# Altium schematic symbol library lt3001-eval-new-sch.SchLib: 8 symbols
Pins are listed as number, name and electrical type; pins without a type are passive.

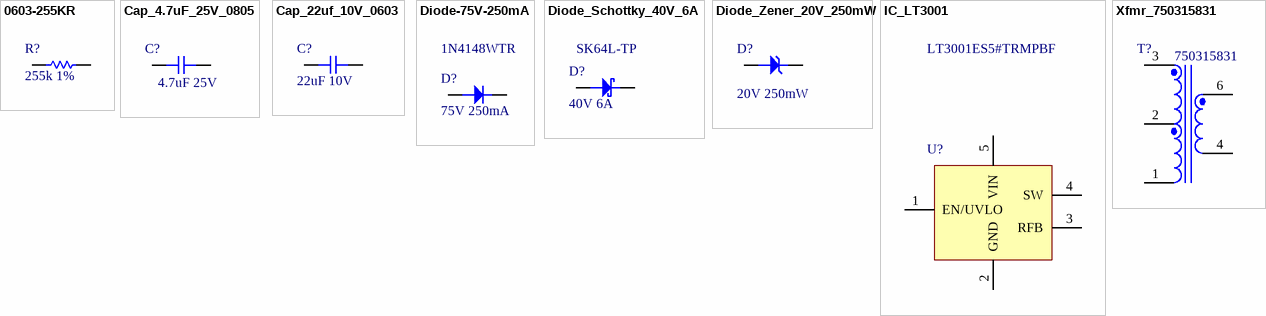
[diagram p0: symbols 0603-255KR to Xfmr_750315831]

## 0603-255KR
designator R?, comment Schematic Label: 255k 1%  (hidden comment: RMCF0603FT255K)
Res Thick Film 0603 255K Ohm 1% 1/10W ±100ppm/°C Molded SMD SMD Paper T/R; Manufacturer: Stackpole Electronics; Resistance: 255kR; Max Power Dissipation: 100mW; Supplier 1: Digi-Key; Manufacturer Part Number: RMCF0603FT255K; RoHS: Yes; Category: Chip SMD Resistors; Stock 1: 69978; Pricing 1: 1=0.10000, 10=0.01700, 100=0.00680, 1000=0.00305, 2500=0.00264 (USD); Mount: Surface Mount; Case/Package: 0603; Case Code (Metric): 1608; Case Code (Imperial): 0603; Contact Plating: Tin,Matte; Min Operating Temperature: -55°C; Max Operating Temperature: 155°C; Packaging: Tape and Reel; Tolerance: 1%; Resistor Type: Thick Film; Number of Terminations: 2; Temperature Coefficient: 100ppm/°C; Features: Automotive AEC-Q200; Series: RMCF; Construction: Rectangular; Length: 0.061inch; Width: 0.031inch; Height: 0.022inch; Depth: 0.8mm; Radiation Hardening: No; Military Standard: Not; RoHS Compliant: Yes; ComponentLink1URL: https://www.seielect.com/catalog/SEI-Packaging.pdf?src-supplier=Digi-Key; ComponentLink1Description: https://www.seielect.com/catalog/SEI-Packaging.pdf?src-supplier=Digi-Key; ComponentLink2URL: https://www.seielect.com/Catalog/SEI-RMCF_RMCP.pdf?src-supplier=Digi-Key; ComponentLink2Description: https://www.seielect.com/Catalog/SEI-RMCF_RMCP.pdf?src-supplier=Digi-Key; ComponentLink3URL: http://components.arrow.com/part/dataview/40961324S7493834N1174?src-supplier=Arrow+Electronics; ComponentLink3Description: http://components.arrow.com/part/dataview/40961324S7493834N1174?src-supplier=Arrow+Electronics; ComponentLink4URL: https://www.seielect.com/catalog/SEI-RMCF_RMCP.pdf?src-supplier=Avnet; ComponentLink4Description: https://www.seielect.com/catalog/SEI-RMCF_RMCP.pdf?src-supplier=Avnet; ComponentLink5URL: https://www.verical.com/server-webapp/html/getDatasheet?partID=714409&src-supplier=Verical; ComponentLink5Description: https://www.verical.com/server-webapp/html/getDatasheet?partID=714409&src-supplier=Verical; Supplier Part Number 1: RMCF0603FT255KCT-ND
footprint RES-0603 (Chip Resistor, 2-Leads, Body 1.60x0.80mm, IPC Medium Density)
pins: 1, 2

## Cap_4.7uF_25V_0805
designator C?, comment Schematic Label: 4.7uF 25V  (hidden comment: CL21A475KAQNNNE)
CAP CER 4.7UF 25V X5R 0805; Manufacturer: Samsung; Tolerance: 10%; Supplier 1: Digi-Key; Manufacturer Part Number: CL21A475KAQNNNE; RoHS: Yes; Category: Ceramic Capacitors; Stock 1: 5685991; Pricing 1: 1=0.11000, 10=0.08000, 50=0.04520, 100=0.03740, 500=0.02624, 1000=0.02172 (USD); Mount: Surface Mount; Case/Package: 0805; Case Code (Metric): 2012; Case Code (Imperial): 0805; Min Operating Temperature: -55°C; Max Operating Temperature: 85°C; Package Quantity: 1; Packaging: Tape and Reel; Capacitance: 4.7uF; Voltage Rating: 25V; Dielectric: X5R; Voltage Rating (DC): 25V; Series: CL; Construction: Flat; Length: 2mm; Width: 0.049inch; Height: 1.25mm; Thickness: 0.055inch; Depth: 1.25mm; Radiation Hardening: No; Lead Free: Lead Free; RoHS Compliant: Yes; ComponentLink1URL: https://datasheet.ciiva.com/25798/cl21a475kaqnnne-25798882.pdf?src-supplier=Digi-Key; ComponentLink1Description: https://datasheet.ciiva.com/25798/cl21a475kaqnnne-25798882.pdf?src-supplier=Digi-Key; Supplier Part Number 1: 1276-1244-1-ND
footprint CAP-0805 (Chip Capacitor, 2-Leads, Body 2.00x1.25mm, IPC Medium Density)
pins: 1, 2

## Cap_22uf_10V_0603
designator C?, comment Schematic Label: 22uF 10V  (hidden comment: CL10A226MP8NUNE)
CAP CER 22UF 10V X5R 0603; Manufacturer: Samsung; Tolerance: 20%; Supplier 1: Digi-Key; Manufacturer Part Number: CL10A226MP8NUNE; RoHS: Yes; Category: Ceramic Capacitors; Stock 1: 925394; Pricing 1: 1=0.20000, 10=0.13900, 50=0.07900, 100=0.06550, 500=0.04590, 1000=0.03800 (USD); Mount: Surface Mount; Case/Package: 0603; Case Code (Metric): 1608; Case Code (Imperial): 0603; Contact Plating: Tin; Min Operating Temperature: -55°C; Max Operating Temperature: 85°C; Packaging: Tape and Reel; Capacitance: 22uF; Voltage Rating: 10V; Dielectric: X5R; Series: CL; Construction: Flat; Length: 1.6mm; Width: 0.031inch; Height: 0.8mm; Thickness: 0.035inch; Depth: 0.8mm; Radiation Hardening: No; Lead Free: Lead Free; RoHS Compliant: Yes; ComponentLink1URL: https://datasheet.ciiva.com/25711/cl10a226mp8nune-25711532.pdf?src-supplier=Digi-Key; ComponentLink1Description: https://datasheet.ciiva.com/25711/cl10a226mp8nune-25711532.pdf?src-supplier=Digi-Key; ComponentLink2URL: https://datasheet.ciiva.com/26838/getdatasheetpartid-746477-26838370.pdf?src-supplier=Verical; ComponentLink2Description: https://datasheet.ciiva.com/26838/getdatasheetpartid-746477-26838370.pdf?src-supplier=Verical; Supplier Part Number 1: 1276-1274-1-ND
footprint CAP-0603 (Chip Capacitor, 2-Leads, Body 1.60x0.80mm, IPC Medium Density)
pins: 1, 2

## Diode-75V-250mA
designator D?, comment Schematic Label: 75V 250mA  (hidden comment: 1N4148WTR)
Diode Gen Purp 75V 250MA SOD123; Manufacturer: SMC; Reverse Recovery Time: 4ns; ComponentLink5URL: https://datasheet.ciiva.com/916/1n914bwt-916866.pdf?src-supplier=Digi-Key; ComponentLink5Description: https://datasheet.ciiva.com/916/1n914bwt-916866.pdf?src-supplier=Digi-Key; ComponentLink7URL: https://datasheet.ciiva.com/916/1n914bwt-916864.pdf?src-supplier=Digi-Key; ComponentLink7Description: https://datasheet.ciiva.com/916/1n914bwt-916864.pdf?src-supplier=Digi-Key; Supplier 1: Future Electronics; RoHS: No; Category: Rectifier Diodes; Stock 1: 3000; Pricing 1: 3000=0.01700, 12000=0.01430, 45000=0.01400, 90000=0.01380, 225000=0.01360 (USD); Mount: Surface Mount; Packaging: Tape and Reel; Max Reverse Voltage (DC): 75V; Average Rectified Current: 250mA; ComponentLink1URL: http://www.smc-diodes.com/propdf/1N4148W%20N0571%20REV.D.pdf?src-supplier=Digi-Key; ComponentLink1Description: http://www.smc-diodes.com/propdf/1N4148W%20N0571%20REV.D.pdf?src-supplier=Digi-Key; Supplier Part Number 1: 7059449; Manufacturer Part Number: 1N4148WTR
footprint DIODE-SOD123 (SODFL, 2-Leads, Body 1.60x3.70mm, IPC Medium Density)
pins: 1, 2

## Diode_Schottky_40V_6A
designator D?, comment Schematic Label: 40V 6A  (hidden comment: SK64L-TP)
6 AMP SCHOTTKY RECTIFIER 20 TO 100 VOLTS; Manufacturer: MCC; Supplier 1: Digi-Key; RoHS: Yes; Category: Uncategorized; Stock 1: 62; Pricing 1: 1=0.62000, 10=0.54400, 100=0.41740, 500=0.33000, 1000=0.26400 (USD); Case/Package: 100; RoHS Compliant: Yes; ComponentLink1URL: http://components.arrow.com/part/dataview/48985430S301820N2022?src-supplier=Arrow+Electronics; ComponentLink1Description: http://components.arrow.com/part/dataview/48985430S301820N2022?src-supplier=Arrow+Electronics; Supplier Part Number 1: SK64L-TPMSCT-ND; Manufacturer Part Number: SK64L-TP
footprint Diode-SOD123W (SODFL, 2-Leads, Body 1.70x3.50mm, IPC Medium Density)
pins: 1, 2

## Diode_Zener_20V_250mW
designator D?, comment Schematic Label: 20V 250mW  (hidden comment: CMDZ5250B TR PBFREE)
Diode Zener Single 20V 5% 250mW 2-Pin SOD-323 T/R; Manufacturer: Central Semiconductor; Supplier 1: Digi-Key; RoHS: Yes; Category: Zener Diodes; Stock 1: 9615; Pricing 1: 1=0.74000, 10=0.65300, 100=0.50090, 500=0.39600, 1000=0.31680 (USD); RoHS Compliant: Yes; Supplier Part Number 1: 1514-CMDZ5250BTRPBFREECT-ND; Manufacturer Part Number: CMDZ5250B TR PBFREE
footprint DIODE-SOD323 (SODFL, 2-Leads, Body 1.25x2.50mm, IPC Medium Density)
pins: 1, 2

## IC_LT3001
designator U?, comment LT3001ES5#TRMPBF
DC/DC Cntrlr Single-OUT Flyback Automotive 5-Pin TSOT-23 T/R; Manufacturer: Analog Devices; Supplier 1: Digi-Key; RoHS: Yes; Category: Voltage Regulators - Switching; Pricing 1: 1=5.73000, 10=5.14700, 25=4.86560, 100=4.21670, 250=4.00044 (USD); Supplier Part Number 1: 505-LT3001ES5#TRMPBFCT-ND; Manufacturer Part Number: LT3001ES5#TRMPBF
footprint SOT95P280X100-5N (SOT23, 5-Leads, Body 2.90x2.80mm, Pitch 0.95mm, IPC Medium Density)
pins: 1 EN/UVLO, 2 GND, 3 RFB, 4 SW, 5 VIN

## Xfmr_750315831
designator T?, comment 750315831
Flyback Converters For For DC/DC Converters SMPS Transformer 1875Vrms Isolation 50 ~ 200kHz Surface Mount; Manufacturer: Wurth Electronics Midcom; Description: Flyback Transformer We-fb; Supplier 1: Digi-Key; RoHS: Yes; Stock 1: 388; Pricing 1: 1=2.64000, 10=2.50800, 50=2.33200, 100=2.11200 (USD); Mount: Surface Mount; Min Operating Temperature: -40°C; Max Operating Temperature: 125°C; Packaging: Cut Tape; Frequency: 200kHz; RoHS Compliant: No; ComponentLink1URL: https://katalog.we-online.com/ctm/datasheet/750315831.pdf?src-supplier=Digi-Key; ComponentLink1Description: https://katalog.we-online.com/ctm/datasheet/750315831.pdf?src-supplier=Digi-Key; Supplier Part Number 1: 1297-1244-1-ND; Manufacturer Part Number: 750315831
footprint 750315831
pins: 1, 2, 3, 4, 6